# Altium schematic symbol library DiodeSchLib.SchLib: 1 symbol
Pins are listed as number, name and electrical type; pins without a type are passive.

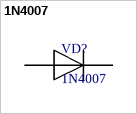
[diagram p0: symbol 1N4007]

## 1N4007
designator VD?
pins: 1, 2